# EAGLE library part MAX8880TDFN (library general)
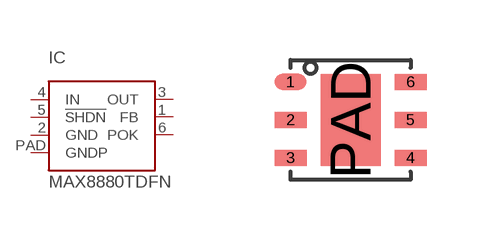
[diagram p1: symbol with the pads of TDFN6; footprint TDFN6]

Designator prefix IC

## MAX8880TDFN  [TDFN6]
1  FB  in
2  GND  pwr
3  OUT  pwr
4  IN  in
5  !SHDN  in
6  POK  out
PAD  GNDP  pwr

## Footprint TDFN6 (pad centres in mm)
smd 0.8 x 0.4: 1 -1.5,0.95; 2 -1.5,0; 3 -1.5,-0.95; 4 1.5,-0.95; 5 1.5,0; 6 1.5,0.95
smd 1.5 x 2.3: PAD 0,0